# Altium footprint library QUTMS_FuseLibrary.PcbLib: 2 footprints
Each footprint in its own frame and in the unit in brackets; x right, y up, seen from the top. Pads: shape width x height; smd on the part's side, far side on the other; paste and mask are expansions set on the pad; w line width, h text height; cw(c..) or ccw(c..) is an arc to the next point about the centre after c.
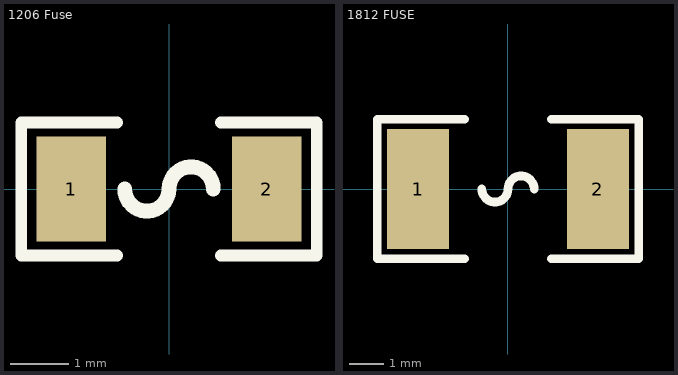
[diagram p0: the footprints below, top view; thin cyan lines are the x and y axes]

## 1206 Fuse [mil]
pads (2):
  rect 47x71 smd: 1(-66.08,0) 2(66.08,0)
Top Overlay:
  lines w8: -35,-45 -100,-45 -100,45 -35,45 ; 35,-45 100,-45 100,45 35,45
  lines w10: -30,0 ccw(c-15,0) 0,0 cw(c15,0) 30,0
3D body "0ZCJ0005FF2E.step": height 28.11, standoff 0.24, extent -66.92,-33.46 66.93,33.47

## 1812 FUSE [mm]
pads (2):
  rect 1.8x3.5 smd: 1(-2.625,0) 2(2.625,0)
Top Overlay:
  lines w0.254: -1.27,-2.032 -3.81,-2.032 -3.81,2.032 -1.27,2.032 ; -0.762,0 ccw(c-0.381,0) 0,0 cw(c0.381,0) 0.762,0 ; 1.27,-2.032 3.81,-2.032 3.81,2.032 1.27,2.032
3D body "1812_RES.stp": height 0.58, standoff -0.03, extent -2.25,-1.6 2.25,1.6